# EAGLE library part VCNL4010 (library FaBo-Sensor)
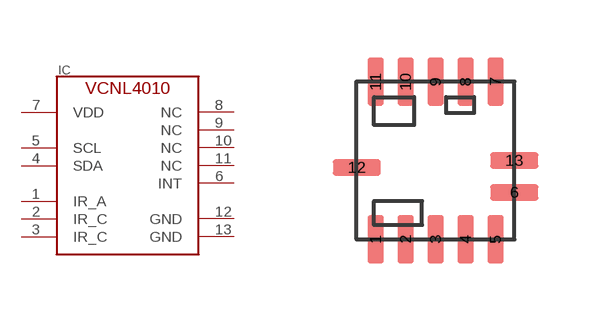
[diagram p13: symbol with the pads of VCNL4010-GS08; footprint VCNL4010-GS08]

Designator prefix IC

## VCNL4010  [VCNL4010-GS08]
1  IR_A
2  IR_C
3  IR_C
4  SDA
5  SCL
6  INT
7  VDD
8  NC
9  NC
10  NC
11  NC
12  GND
13  GND

## Footprint VCNL4010-GS08 (pad centres in mm)
smd 0.4 x 1.2: 1 -1.5,-1.97; 2 -0.75,-1.97; 3 0,-1.97; 4 0.75,-1.97; 5 1.5,-1.97; 7 1.5,1.97; 8 0.75,1.97; 9 0,1.97; 10 -0.75,1.97; 11 -1.5,1.97
smd 1.2 x 0.4: 6 1.97,-0.8; 12 -1.97,-0.175; 13 1.97,0